# EAGLE library part ASMB-TTF0-0A20B (library BluJoy-e)
BROADCOM LIMITED - ASMB-TTF0-0A20B - LED, RGB, 710/1840/410MCD, PLCC-6 Source: Datasheet <https://componentsearchengine.com/Datasheets/1/ASMB-TTF0-0A20B.pdf>
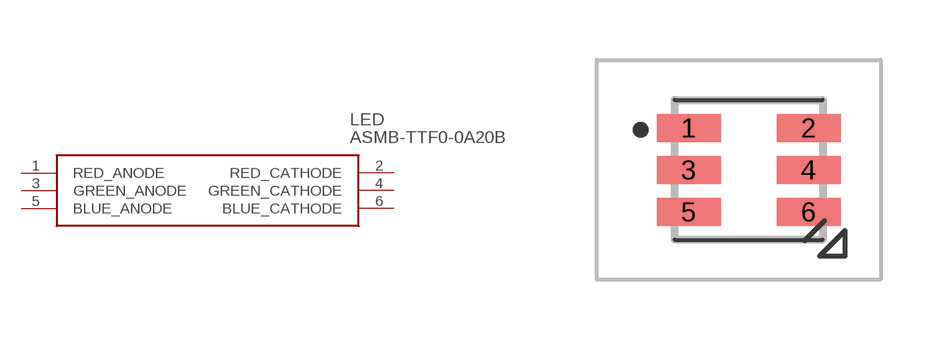
[diagram p2: symbol with the pads of ASMBTTF00A20B; footprint ASMBTTF00A20B]

Designator prefix LED

## ASMB-TTF0-0A20B (DESCRIPTION: BROADCOM LIMITED - ASMB-TTF0-0A20B - LED, RGB, 710/1840/410MCD, PLCC-6; HEIGHT: 2mm; MANUFACTURER_NAME: Avago Technologies; MANUFACTURER_PART_NUMBER: ASMB-TTF0-0A20B; MOUSER_PART_NUMBER: 630-ASMB-TTF0-0A20B; MOUSER_PRICE-STOCK: https://www.mouser.com/Search/Refine.aspx?Keyword=630-ASMB-TTF0-0A20B)  [ASMBTTF00A20B]
1  RED_ANODE
2  RED_CATHODE
3  GREEN_ANODE
4  GREEN_CATHODE
5  BLUE_ANODE
6  BLUE_CATHODE

## Footprint ASMBTTF00A20B (pad centres in mm)
PLCC-6
smd 1.6 x 0.7: 1 -1.5,1.05; 2 1.5,1.05; 3 -1.5,0; 4 1.5,0; 5 -1.5,-1.05; 6 1.5,-1.05